# EAGLE library part USB.C-10132328-10011LF (library CalvEngIO-Connectors)
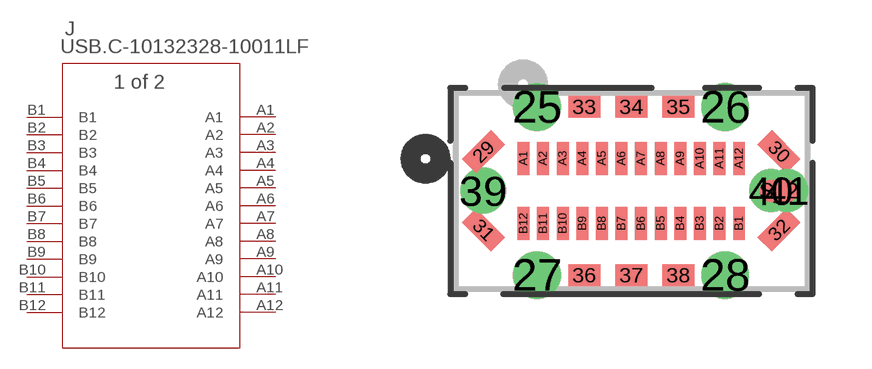
[diagram p24: symbol with the pads of CONN_10132328-10011LF; footprint CONN_10132328-10011LF]

Designator prefix J

## USB.C-10132328-10011LF (MANUFACTURER_PART_NUMBER: 1013232810011LF; VENDOR: FCI)  [CONN_10132328-10011LF]
A1  A1  pas
A2  A2  pas
A3  A3  pas
A4  A4  pas
A5  A5  pas
A6  A6  pas
A7  A7  pas
A8  A8  pas
A9  A9  pas
A10  A10  pas
A11  A11  pas
A12  A12  pas
B1  B1  pas
B2  B2  pas
B3  B3  pas
B4  B4  pas
B5  B5  pas
B6  B6  pas
B7  B7  pas
B8  B8  pas
B9  B9  pas
B10  B10  pas
B11  B11  pas
B12  B12  pas

## Footprint CONN_10132328-10011LF (pad centres in mm)
drill 0.711 pad 0.711: 25 -5.156,2.972; 26 -0.356,2.972; 27 -5.156,-1.321; 28 -0.356,-1.321
smd 1.041 x 0.508 rotated 45: 29 -6.52,1.83
smd 1.041 x 0.508 rotated 135: 30 1.02,1.83; 31 -6.52,-0.17
smd 1.041 x 0.508 rotated 225: 32 1.02,-0.17
smd 0.82 x 0.55: 33 -3.95,2.98; 34 -2.75,2.98; 35 -1.55,2.98; 36 -3.95,-1.32; 37 -2.75,-1.32; 38 -1.55,-1.32
drill 0.66 pad 0.66: 39 -6.528,0.838
drill 0.584 pad 0.584: 40 0.813,0.838; 41 1.219,0.838
smd 0.305 x 0.838: A1 -5.5,1.66; A2 -5,1.66; A3 -4.5,1.66; A4 -4,1.66; A5 -3.5,1.66; A6 -3,1.66; A7 -2.5,1.66; A8 -2,1.66; A9 -1.5,1.66; A10 -1,1.66; A11 -0.5,1.66; A12 0,1.66; B1 0,0; B2 -0.5,0; B3 -1,0; B4 -1.5,0; B5 -2,0; B6 -2.5,0; B7 -3,0; B8 -3.5,0; B9 -4,0; B10 -4.5,0; B11 -5,0; B12 -5.5,0
smd 1 x 0.58: S_2 1.02,0.83